# Altium footprint library MiscPower.PcbLib: 174 footprints (part 8 of 12)
Each footprint in its own frame and in the unit in brackets; x right, y up, seen from the top. Pads: shape width x height; smd on the part's side, far side on the other; paste and mask are expansions set on the pad; w line width, h text height; cw(c..) or ccw(c..) is an arc to the next point about the centre after c.
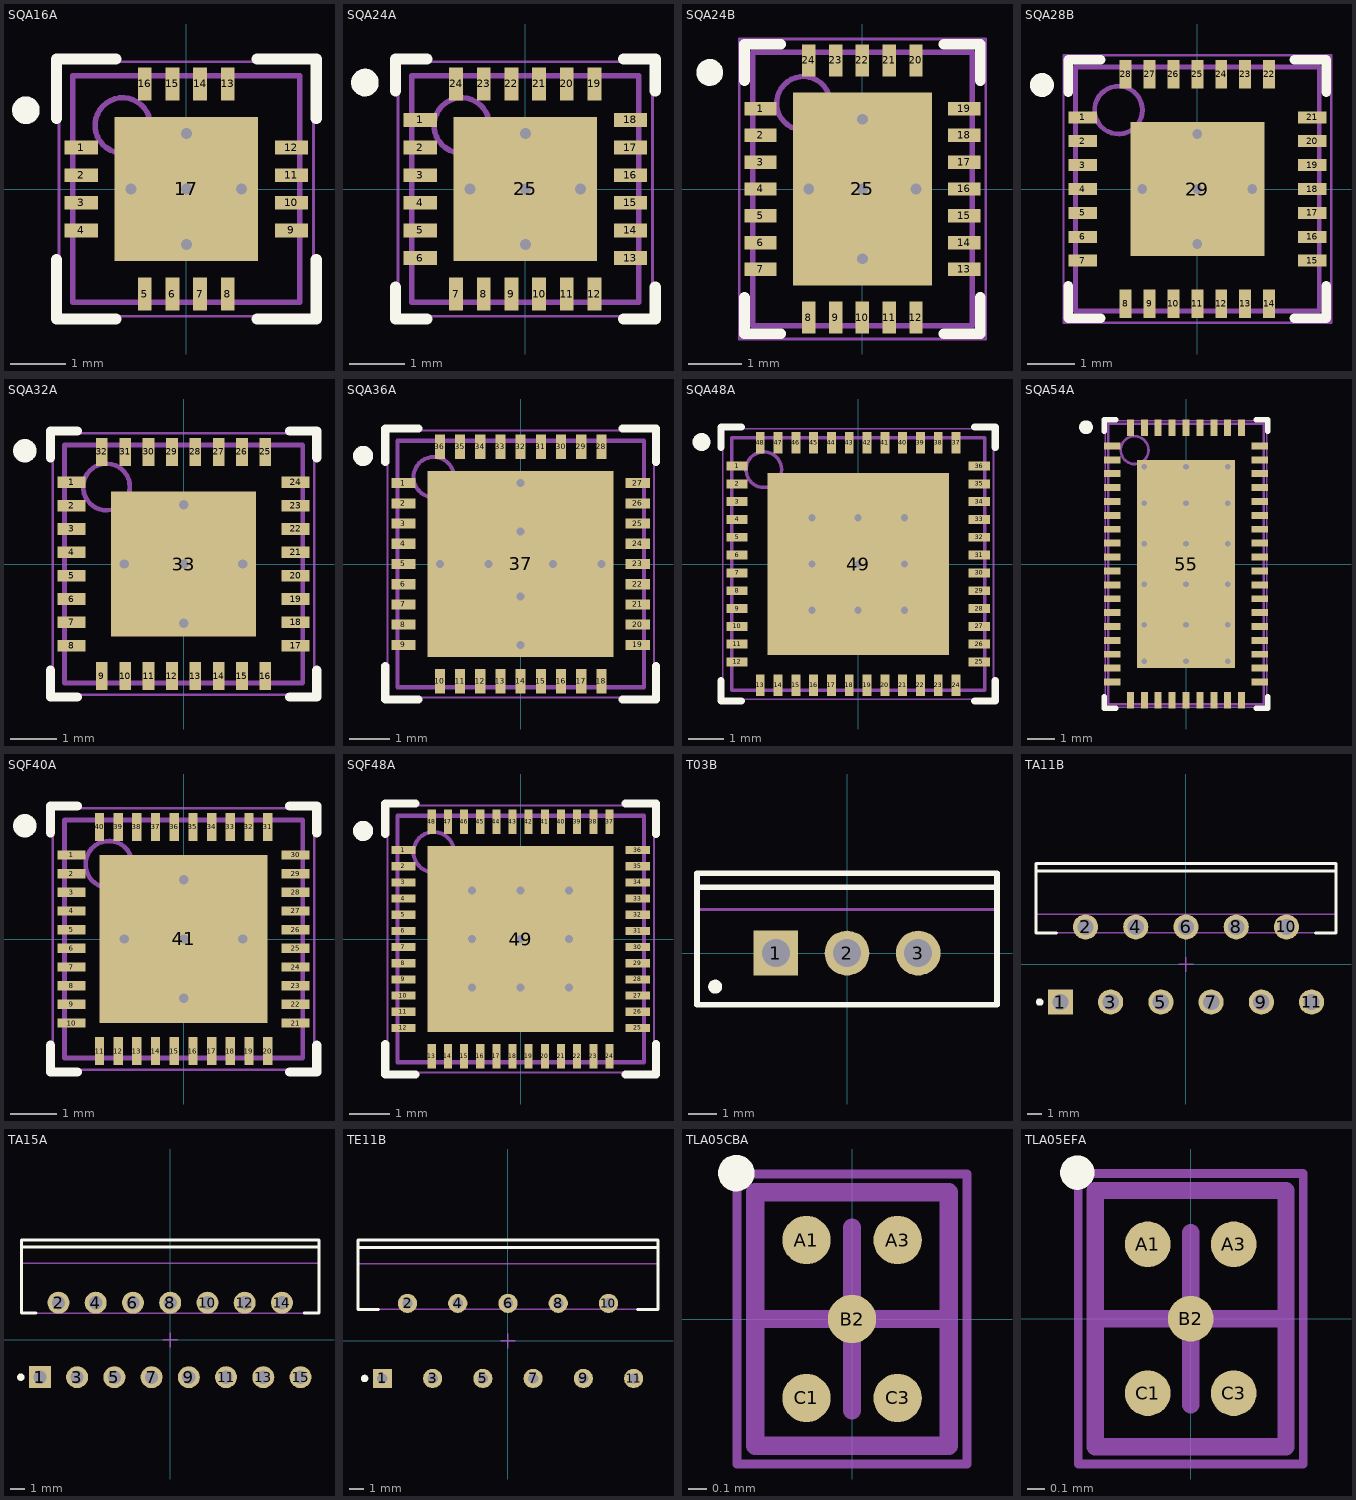
[diagram p7: the footprints below, top view; thin cyan lines are the x and y axes]

## SQA16A [mm] "QFN, 16-Leads, Body 4x4mm, Pitch 0.5mm, NSC Recommended"
height 0.8
pads (17):
  rect 0.6x0.25 smd paste-0.125 mask+0.051: 1(-1.9,0.75) 2(-1.9,0.25) 3(-1.9,-0.25) 4(-1.9,-0.75) 9(1.9,-0.75) 10(1.9,-0.25) 11(1.9,0.25) 12(1.9,0.75)
  rect 0.25x0.6 smd paste-0.125 mask+0.051: 5(-0.75,-1.9) 6(-0.25,-1.9) 7(0.25,-1.9) 8(0.75,-1.9) 13(0.75,1.9) 14(0.25,1.9) 15(-0.25,1.9) 16(-0.75,1.9)
  rect 2.6x2.6 smd paste-1.3 mask+0.051: 17(0,0)
via 0,0 diameter 0.5 hole 0.2
via 1,0 diameter 0.5 hole 0.2
via -1,0 diameter 0.5 hole 0.2
via 0,1 diameter 0.5 hole 0.2
via 0,-1 diameter 0.5 hole 0.2
Top Overlay:
  circle w0.25: c-2.9,1.425 r0.125
  lines w0.2: -2.35,-1.275 -2.35,-2.35 -1.275,-2.35 ; -2.35,1.275 -2.35,2.35 -1.275,2.35 ; 1.275,-2.35 2.35,-2.35 2.35,-1.275 ; 1.275,2.35 2.35,2.35 2.35,1.275
Top Paste:
  region: -0.625,-2.4 -0.625,-1.7 -0.875,-1.7 -0.875,-2.4
  region: -0.125,-2.4 -0.125,-1.7 -0.375,-1.7 -0.375,-2.4
  region: 0.375,-2.4 0.375,-1.7 0.125,-1.7 0.125,-2.4
  region: 0.875,-2.4 0.875,-1.7 0.625,-1.7 0.625,-2.4
  region: 0.625,2.4 0.625,1.7 0.875,1.7 0.875,2.4
  region: 0.125,2.4 0.125,1.7 0.375,1.7 0.375,2.4
  region: -0.375,2.4 -0.375,1.7 -0.125,1.7 -0.125,2.4
  region: -0.875,2.4 -0.875,1.7 -0.625,1.7 -0.625,2.4
  region: 2.4,-0.625 1.7,-0.625 1.7,-0.875 2.4,-0.875
  region: 2.4,-0.125 1.7,-0.125 1.7,-0.375 2.4,-0.375
  region: 2.4,0.375 1.7,0.375 1.7,0.125 2.4,0.125
  region: 2.4,0.875 1.7,0.875 1.7,0.625 2.4,0.625
  rectangle: -2.4,-0.875 -1.7,-0.625
  rectangle: -2.4,-0.375 -1.7,-0.125
  rectangle: -2.4,0.125 -1.7,0.375
  rectangle: -2.4,0.625 -1.7,0.875
  rectangle: 0.1,0.1 1.2,1.2
  region: -0.1,1.2 -1.2,1.2 -1.2,0.1 -0.1,0.1
  region: -0.1,-0.1 -1.2,-0.1 -1.2,-1.2 -0.1,-1.2
  rectangle: 0.1,-1.2 1.2,-0.1
Mechanical 13:
  circle w0.1: c-1.15,1.15 r0.5
  lines w0.1: -2.05,-2.05 2.05,-2.05 2.05,2.05 -2.05,2.05 -2.05,-2.05
Mechanical 15:
  lines w0.05: -2.3,-2.3 2.3,-2.3 2.3,2.3 -2.3,2.3 -2.3,-2.3
  lines w0.1: -0.5,0 0.5,0 ; 0,-0.5 0,0.5
3D body: height 0.8, standoff 0, extent -2.05,-2.05 2.05,2.05

## SQA24A [mm] "QFN, 24-Leads, Body 4x4mm, Pitch 0.5mm, NSC Recommended"
height 0.8
pads (25):
  rect 0.6x0.25 smd paste-0.125 mask+0.051: 1(-1.9,1.25) 2(-1.9,0.75) 3(-1.9,0.25) 4(-1.9,-0.25) 5(-1.9,-0.75) 6(-1.9,-1.25) 13(1.9,-1.25) 14(1.9,-0.75) 15(1.9,-0.25) 16(1.9,0.25) 17(1.9,0.75) 18(1.9,1.25)
  rect 0.25x0.6 smd paste-0.125 mask+0.051: 7(-1.25,-1.9) 8(-0.75,-1.9) 9(-0.25,-1.9) 10(0.25,-1.9) 11(0.75,-1.9) 12(1.25,-1.9) 19(1.25,1.9) 20(0.75,1.9) 21(0.25,1.9) 22(-0.25,1.9) 23(-0.75,1.9) 24(-1.25,1.9)
  rect 2.6x2.6 smd paste-1.3 mask+0.051: 25(0,0)
via 0,0 diameter 0.5 hole 0.2
via 1,0 diameter 0.5 hole 0.2
via -1,0 diameter 0.5 hole 0.2
via 0,1 diameter 0.5 hole 0.2
via 0,-1 diameter 0.5 hole 0.2
Top Overlay:
  circle w0.25: c-2.9,1.925 r0.125
  lines w0.2: -2.35,-1.775 -2.35,-2.35 -1.775,-2.35 ; -2.35,1.775 -2.35,2.35 -1.775,2.35 ; 1.775,-2.35 2.35,-2.35 2.35,-1.775 ; 1.775,2.35 2.35,2.35 2.35,1.775
Top Paste:
  region: 1.125,2.4 1.125,1.7 1.375,1.7 1.375,2.4
  region: 0.625,2.4 0.625,1.7 0.875,1.7 0.875,2.4
  region: 0.125,2.4 0.125,1.7 0.375,1.7 0.375,2.4
  region: -0.375,2.4 -0.375,1.7 -0.125,1.7 -0.125,2.4
  region: -0.875,2.4 -0.875,1.7 -0.625,1.7 -0.625,2.4
  region: -1.375,2.4 -1.375,1.7 -1.125,1.7 -1.125,2.4
  region: 2.4,-1.125 1.7,-1.125 1.7,-1.375 2.4,-1.375
  region: 2.4,-0.625 1.7,-0.625 1.7,-0.875 2.4,-0.875
  region: 2.4,-0.125 1.7,-0.125 1.7,-0.375 2.4,-0.375
  region: 2.4,0.375 1.7,0.375 1.7,0.125 2.4,0.125
  region: 2.4,0.875 1.7,0.875 1.7,0.625 2.4,0.625
  region: 2.4,1.375 1.7,1.375 1.7,1.125 2.4,1.125
  region: -1.125,-2.4 -1.125,-1.7 -1.375,-1.7 -1.375,-2.4
  region: -0.625,-2.4 -0.625,-1.7 -0.875,-1.7 -0.875,-2.4
  region: -0.125,-2.4 -0.125,-1.7 -0.375,-1.7 -0.375,-2.4
  region: 0.375,-2.4 0.375,-1.7 0.125,-1.7 0.125,-2.4
  region: 0.875,-2.4 0.875,-1.7 0.625,-1.7 0.625,-2.4
  region: 1.375,-2.4 1.375,-1.7 1.125,-1.7 1.125,-2.4
  rectangle: -2.4,-1.375 -1.7,-1.125
  rectangle: -2.4,-0.875 -1.7,-0.625
  rectangle: -2.4,-0.375 -1.7,-0.125
  rectangle: -2.4,0.125 -1.7,0.375
  rectangle: -2.4,0.625 -1.7,0.875
  rectangle: -2.4,1.125 -1.7,1.375
  rectangle: 0.1,-1.2 1.2,-0.1
  region: -0.1,-0.1 -1.2,-0.1 -1.2,-1.2 -0.1,-1.2
  region: -0.1,1.2 -1.2,1.2 -1.2,0.1 -0.1,0.1
  rectangle: 0.1,0.1 1.2,1.2
Mechanical 13:
  circle w0.1: c-1.15,1.15 r0.5
  lines w0.1: -2.05,-2.05 -2.05,2.05 2.05,2.05 2.05,-2.05 -2.05,-2.05
Mechanical 15:
  lines w0.05: -2.3,-2.3 -2.3,2.3 2.3,2.3 2.3,-2.3 -2.3,-2.3
  lines w0.1: -0.5,0 0.5,0 ; 0,-0.5 0,0.5
3D body: height 0.8, standoff 0, extent -2.05,-2.05 2.05,2.05

## SQA24B [mm] "QFN, 24-Leads, Body 5x4mm, Pitch 0.5mm, NSC Recommended"
height 0.8
pads (25):
  rect 0.6x0.25 smd paste-0.3 mask+0.051: 1(-1.9,1.5) 2(-1.9,1) 3(-1.9,0.5) 4(-1.9,0) 5(-1.9,-0.5) 6(-1.9,-1) 7(-1.9,-1.5) 13(1.9,-1.5) 14(1.9,-1) 15(1.9,-0.5) 16(1.9,0) 17(1.9,0.5) 18(1.9,1) 19(1.9,1.5)
  rect 0.25x0.6 smd paste-0.3 mask+0.051: 8(-1,-2.4) 9(-0.5,-2.4) 10(0,-2.4) 11(0.5,-2.4) 12(1,-2.4) 20(1,2.4) 21(0.5,2.4) 22(0,2.4) 23(-0.5,2.4) 24(-1,2.4)
  rect 2.6x3.6 smd paste-1.3 mask+0.051: 25(0,0)
via 0,0 diameter 0.5 hole 0.2
via -1,0 diameter 0.5 hole 0.2
via 0,-1.3 diameter 0.5 hole 0.2
via 0,1.3 diameter 0.5 hole 0.2
via 1,0 diameter 0.5 hole 0.2
Top Overlay:
  circle w0.25: c-2.85,2.175 r0.125
  lines w0.2: -2.2,-2.025 -2.2,-2.7 -1.525,-2.7 ; -2.2,2.025 -2.2,2.7 -1.525,2.7 ; 1.525,-2.7 2.2,-2.7 2.2,-2.025 ; 1.525,2.7 2.2,2.7 2.2,2.025
Top Paste:
  region: 1.125,-2.9 1.125,-2.2 0.875,-2.2 0.875,-2.9
  region: 0.625,-2.9 0.625,-2.2 0.375,-2.2 0.375,-2.9
  region: 0.125,-2.9 0.125,-2.2 -0.125,-2.2 -0.125,-2.9
  region: -0.375,-2.9 -0.375,-2.2 -0.625,-2.2 -0.625,-2.9
  region: -0.875,-2.9 -0.875,-2.2 -1.125,-2.2 -1.125,-2.9
  rectangle: -2.4,-1.625 -1.7,-1.375
  rectangle: -2.4,-1.125 -1.7,-0.875
  rectangle: -2.4,-0.625 -1.7,-0.375
  rectangle: -2.4,-0.125 -1.7,0.125
  rectangle: -2.4,0.375 -1.7,0.625
  rectangle: -2.4,0.875 -1.7,1.125
  rectangle: -2.4,1.375 -1.7,1.625
  region: -1.125,2.9 -1.125,2.2 -0.875,2.2 -0.875,2.9
  region: -0.625,2.9 -0.625,2.2 -0.375,2.2 -0.375,2.9
  region: -0.125,2.9 -0.125,2.2 0.125,2.2 0.125,2.9
  region: 0.375,2.9 0.375,2.2 0.625,2.2 0.625,2.9
  region: 0.875,2.9 0.875,2.2 1.125,2.2 1.125,2.9
  region: 2.4,-1.375 1.7,-1.375 1.7,-1.625 2.4,-1.625
  region: 2.4,-0.875 1.7,-0.875 1.7,-1.125 2.4,-1.125
  region: 2.4,-0.375 1.7,-0.375 1.7,-0.625 2.4,-0.625
  region: 2.4,0.125 1.7,0.125 1.7,-0.125 2.4,-0.125
  region: 2.4,0.625 1.7,0.625 1.7,0.375 2.4,0.375
  region: 2.4,1.125 1.7,1.125 1.7,0.875 2.4,0.875
  region: 2.4,1.625 1.7,1.625 1.7,1.375 2.4,1.375
  rectangle: 0.1,0.1 1.2,1.7
  region: -0.1,1.7 -1.2,1.7 -1.2,0.1 -0.1,0.1
  region: -0.1,-0.1 -1.2,-0.1 -1.2,-1.7 -0.1,-1.7
  rectangle: 0.1,-1.7 1.2,-0.1
Mechanical 13:
  circle w0.1: c-1.1,1.6 r0.5
  lines w0.1: -2.05,-2.55 2.05,-2.55 2.05,2.55 -2.05,2.55 -2.05,-2.55
Mechanical 15:
  lines w0.05: -2.3,-2.8 2.3,-2.8 2.3,2.8 -2.3,2.8 -2.3,-2.8
  lines w0.1: -0.5,0 0.5,0 ; 0,-0.5 0,0.5
3D body: height 0.8, standoff 0, extent -2.05,-2.55 2.05,2.55

## SQA28B [mm] "QFN, 29-Leads, Body 5x5mm, Pitch 0.5mm, Thermal Pad 2.8x2.8mm, NSC Recommended"
height 0.8
pads (29):
  rect 0.6x0.25 smd paste-0.125 mask+0.051: 1(-2.4,1.5) 2(-2.4,1) 3(-2.4,0.5) 4(-2.4,0) 5(-2.4,-0.5) 6(-2.4,-1) 7(-2.4,-1.5) 15(2.4,-1.5) 16(2.4,-1) 17(2.4,-0.5) 18(2.4,0) 19(2.4,0.5) 20(2.4,1) 21(2.4,1.5)
  rect 0.25x0.6 smd paste-0.125 mask+0.051: 8(-1.5,-2.4) 9(-1,-2.4) 10(-0.5,-2.4) 11(0,-2.4) 12(0.5,-2.4) 13(1,-2.4) 14(1.5,-2.4) 22(1.5,2.4) 23(1,2.4) 24(0.5,2.4) 25(0,2.4) 26(-0.5,2.4) 27(-1,2.4) 28(-1.5,2.4)
  rect 2.8x2.8 smd paste-1.8 mask+0.051: 29(0,0)
via -1.15,0 diameter 0.5 hole 0.2
via 0,-1.15 diameter 0.5 hole 0.2
via 0,1.15 diameter 0.5 hole 0.2
via 1.15,0 diameter 0.5 hole 0.2
via 0,0 diameter 0.5 hole 0.2
Top Overlay:
  circle w0.25: c-3.25,2.175 r0.125
  lines w0.2: -2.7,-2.025 -2.7,-2.7 -2.025,-2.7 ; -2.7,2.025 -2.7,2.7 -2.025,2.7 ; 2.025,-2.7 2.7,-2.7 2.7,-2.025 ; 2.025,2.7 2.7,2.7 2.7,2.025
Top Paste:
  region: 1.2,0.1 1.2,1.2 0.1,1.2 0.1,0.1
  rectangle: 0.1,-1.2 1.2,-0.1
  region: -1.2,-0.1 -1.2,-1.2 -0.1,-1.2 -0.1,-0.1
  region: -0.1,1.2 -1.2,1.2 -1.2,0.1 -0.1,0.1
  region: -1.375,-2.9 -1.375,-2.2 -1.625,-2.2 -1.625,-2.9
  region: -0.875,-2.9 -0.875,-2.2 -1.125,-2.2 -1.125,-2.9
  region: -0.375,-2.9 -0.375,-2.2 -0.625,-2.2 -0.625,-2.9
  region: 0.125,-2.9 0.125,-2.2 -0.125,-2.2 -0.125,-2.9
  region: 0.625,-2.9 0.625,-2.2 0.375,-2.2 0.375,-2.9
  region: 1.125,-2.9 1.125,-2.2 0.875,-2.2 0.875,-2.9
  region: 1.625,-2.9 1.625,-2.2 1.375,-2.2 1.375,-2.9
  region: -1.625,2.9 -1.625,2.2 -1.375,2.2 -1.375,2.9
  region: -1.125,2.9 -1.125,2.2 -0.875,2.2 -0.875,2.9
  region: -0.625,2.9 -0.625,2.2 -0.375,2.2 -0.375,2.9
  region: -0.125,2.9 -0.125,2.2 0.125,2.2 0.125,2.9
  region: 0.375,2.9 0.375,2.2 0.625,2.2 0.625,2.9
  region: 0.875,2.9 0.875,2.2 1.125,2.2 1.125,2.9
  region: 1.375,2.9 1.375,2.2 1.625,2.2 1.625,2.9
  region: 2.9,1.625 2.2,1.625 2.2,1.375 2.9,1.375
  region: 2.9,1.125 2.2,1.125 2.2,0.875 2.9,0.875
  region: 2.9,0.625 2.2,0.625 2.2,0.375 2.9,0.375
  region: 2.9,0.125 2.2,0.125 2.2,-0.125 2.9,-0.125
  region: 2.9,-0.375 2.2,-0.375 2.2,-0.625 2.9,-0.625
  region: 2.9,-0.875 2.2,-0.875 2.2,-1.125 2.9,-1.125
  region: 2.9,-1.375 2.2,-1.375 2.2,-1.625 2.9,-1.625
  rectangle: -2.9,-1.625 -2.2,-1.375
  rectangle: -2.9,-1.125 -2.2,-0.875
  rectangle: -2.9,-0.625 -2.2,-0.375
  rectangle: -2.9,-0.125 -2.2,0.125
  rectangle: -2.9,0.375 -2.2,0.625
  rectangle: -2.9,0.875 -2.2,1.125
  rectangle: -2.9,1.375 -2.2,1.625
Mechanical 13:
  circle w0.1: c-1.65,1.65 r0.5
  lines w0.1: -2.55,-2.55 -2.55,2.55 2.55,2.55 2.55,-2.55 -2.55,-2.55
Mechanical 15:
  lines w0.05: -2.8,-2.8 -2.8,2.8 2.8,2.8 2.8,-2.8 -2.8,-2.8
  lines w0.1: -0.5,0 0.5,0 ; 0,-0.5 0,0.5
3D body: height 0.8, standoff 0, extent -2.55,-2.55 2.55,2.55

## SQA32A [mm] "QFN, 32-Leads, Body 5x5mm, Pitch 0.5mm, NSC Recommended"
height 0.8
pads (33):
  rect 0.6x0.25 smd paste-0.125 mask+0.051: 1(-2.4,1.75) 2(-2.4,1.25) 3(-2.4,0.75) 4(-2.4,0.25) 5(-2.4,-0.25) 6(-2.4,-0.75) 7(-2.4,-1.25) 8(-2.4,-1.75) 17(2.4,-1.75) 18(2.4,-1.25) 19(2.4,-0.75) 20(2.4,-0.25) 21(2.4,0.25) 22(2.4,0.75) 23(2.4,1.25) 24(2.4,1.75)
  rect 0.25x0.6 smd paste-0.125 mask+0.051: 9(-1.75,-2.4) 10(-1.25,-2.4) 11(-0.75,-2.4) 12(-0.25,-2.4) 13(0.25,-2.4) 14(0.75,-2.4) 15(1.25,-2.4) 16(1.75,-2.4) 25(1.75,2.4) 26(1.25,2.4) 27(0.75,2.4) 28(0.25,2.4) 29(-0.25,2.4) 30(-0.75,2.4) 31(-1.25,2.4) 32(-1.75,2.4)
  rect 3.1x3.1 smd paste-1.55 mask+0.051: 33(0,0)
via 0,1.27 diameter 0.5 hole 0.2
via -1.27,0 diameter 0.5 hole 0.2
via 0,0 diameter 0.5 hole 0.2
via 1.27,0 diameter 0.5 hole 0.2
via 0,-1.27 diameter 0.5 hole 0.2
Top Overlay:
  circle w0.25: c-3.4,2.425 r0.125
  lines w0.2: -2.85,-2.275 -2.85,-2.85 -2.275,-2.85 ; -2.85,2.275 -2.85,2.85 -2.275,2.85 ; 2.275,-2.85 2.85,-2.85 2.85,-2.275 ; 2.275,2.85 2.85,2.85 2.85,2.275
Top Paste:
  region: 1.625,2.9 1.625,2.2 1.875,2.2 1.875,2.9
  region: 1.125,2.9 1.125,2.2 1.375,2.2 1.375,2.9
  region: 0.625,2.9 0.625,2.2 0.875,2.2 0.875,2.9
  region: 0.125,2.9 0.125,2.2 0.375,2.2 0.375,2.9
  region: -0.375,2.9 -0.375,2.2 -0.125,2.2 -0.125,2.9
  region: -0.875,2.9 -0.875,2.2 -0.625,2.2 -0.625,2.9
  region: -1.375,2.9 -1.375,2.2 -1.125,2.2 -1.125,2.9
  region: -1.875,2.9 -1.875,2.2 -1.625,2.2 -1.625,2.9
  region: 2.9,-1.625 2.2,-1.625 2.2,-1.875 2.9,-1.875
  region: 2.9,-1.125 2.2,-1.125 2.2,-1.375 2.9,-1.375
  region: 2.9,-0.625 2.2,-0.625 2.2,-0.875 2.9,-0.875
  region: 2.9,-0.125 2.2,-0.125 2.2,-0.375 2.9,-0.375
  region: 2.9,0.375 2.2,0.375 2.2,0.125 2.9,0.125
  region: 2.9,0.875 2.2,0.875 2.2,0.625 2.9,0.625
  region: 2.9,1.375 2.2,1.375 2.2,1.125 2.9,1.125
  region: 2.9,1.875 2.2,1.875 2.2,1.625 2.9,1.625
  region: -1.625,-2.9 -1.625,-2.2 -1.875,-2.2 -1.875,-2.9
  region: -1.125,-2.9 -1.125,-2.2 -1.375,-2.2 -1.375,-2.9
  region: -0.625,-2.9 -0.625,-2.2 -0.875,-2.2 -0.875,-2.9
  region: -0.125,-2.9 -0.125,-2.2 -0.375,-2.2 -0.375,-2.9
  region: 0.375,-2.9 0.375,-2.2 0.125,-2.2 0.125,-2.9
  region: 0.875,-2.9 0.875,-2.2 0.625,-2.2 0.625,-2.9
  region: 1.375,-2.9 1.375,-2.2 1.125,-2.2 1.125,-2.9
  region: 1.875,-2.9 1.875,-2.2 1.625,-2.2 1.625,-2.9
  rectangle: -2.9,-1.875 -2.2,-1.625
  rectangle: -2.9,-1.375 -2.2,-1.125
  rectangle: -2.9,-0.875 -2.2,-0.625
  rectangle: -2.9,-0.375 -2.2,-0.125
  rectangle: -2.9,0.125 -2.2,0.375
  rectangle: -2.9,0.625 -2.2,0.875
  rectangle: -2.9,1.125 -2.2,1.375
  rectangle: -2.9,1.625 -2.2,1.875
  rectangle: 0.1,0.1 1.4,1.4
  region: -0.1,1.4 -1.4,1.4 -1.4,0.1 -0.1,0.1
  region: -0.1,-0.1 -1.4,-0.1 -1.4,-1.4 -0.1,-1.4
  rectangle: 0.1,-1.4 1.4,-0.1
Mechanical 13:
  circle w0.1: c-1.65,1.65 r0.5
  lines w0.1: -2.55,-2.55 -2.55,2.55 2.55,2.55 2.55,-2.55 -2.55,-2.55
Mechanical 15:
  lines w0.05: -2.8,-2.8 -2.8,2.8 2.8,2.8 2.8,-2.8 -2.8,-2.8
  lines w0.1: -0.5,0 0.5,0 ; 0,-0.5 0,0.5
3D body: height 0.8, standoff 0, extent -2.55,-2.55 2.55,2.55

## SQA36A [mm] "QFN, 36-Leads, Body 6x6mm, Pitch 0.5mm, NSC Recommended"
height 0.8
pads (37):
  rect 0.6x0.25 smd paste-0.125 mask+0.051: 1(-2.9,2) 2(-2.9,1.5) 3(-2.9,1) 4(-2.9,0.5) 5(-2.9,0) 6(-2.9,-0.5) 7(-2.9,-1) 8(-2.9,-1.5) 9(-2.9,-2) 19(2.9,-2) 20(2.9,-1.5) 21(2.9,-1) 22(2.9,-0.5) 23(2.9,0) 24(2.9,0.5) 25(2.9,1) 26(2.9,1.5) 27(2.9,2)
  rect 0.25x0.6 smd paste-0.125 mask+0.051: 10(-2,-2.9) 11(-1.5,-2.9) 12(-1,-2.9) 13(-0.5,-2.9) 14(0,-2.9) 15(0.5,-2.9) 16(1,-2.9) 17(1.5,-2.9) 18(2,-2.9) 28(2,2.9) 29(1.5,2.9) 30(1,2.9) 31(0.5,2.9) 32(0,2.9) 33(-0.5,2.9) 34(-1,2.9) 35(-1.5,2.9) 36(-2,2.9)
  rect 4.6x4.6 smd paste-2.3 mask+0.051: 37(0,0)
via -2,0 diameter 0.5 hole 0.2
via 2,0 diameter 0.5 hole 0.2
via 0,-2 diameter 0.5 hole 0.2
via 0,2 diameter 0.5 hole 0.2
via 0,-0.8 diameter 0.5 hole 0.2
via 0,0.8 diameter 0.5 hole 0.2
via -0.8,0 diameter 0.5 hole 0.2
via 0.8,0 diameter 0.5 hole 0.2
Top Overlay:
  circle w0.25: c-3.9,2.675 r0.125
  lines w0.2: -3.35,-2.525 -3.35,-3.35 -2.525,-3.35 ; -3.35,2.525 -3.35,3.35 -2.525,3.35 ; 2.525,-3.35 3.35,-3.35 3.35,-2.525 ; 2.525,3.35 3.35,3.35 3.35,2.525
Top Paste:
  rectangle: 0.15,-2.2 2.2,-0.15
  region: -0.15,-0.15 -2.2,-0.15 -2.2,-2.2 -0.15,-2.2
  region: -0.15,2.2 -2.2,2.2 -2.2,0.15 -0.15,0.15
  rectangle: 0.15,0.15 2.2,2.2
  region: 1.875,3.4 1.875,2.7 2.125,2.7 2.125,3.4
  region: 1.375,3.4 1.375,2.7 1.625,2.7 1.625,3.4
  region: 0.875,3.4 0.875,2.7 1.125,2.7 1.125,3.4
  region: 0.375,3.4 0.375,2.7 0.625,2.7 0.625,3.4
  region: -0.125,3.4 -0.125,2.7 0.125,2.7 0.125,3.4
  region: -0.625,3.4 -0.625,2.7 -0.375,2.7 -0.375,3.4
  region: -1.125,3.4 -1.125,2.7 -0.875,2.7 -0.875,3.4
  region: -1.625,3.4 -1.625,2.7 -1.375,2.7 -1.375,3.4
  region: -2.125,3.4 -2.125,2.7 -1.875,2.7 -1.875,3.4
  region: 3.4,-1.875 2.7,-1.875 2.7,-2.125 3.4,-2.125
  region: 3.4,-1.375 2.7,-1.375 2.7,-1.625 3.4,-1.625
  region: 3.4,-0.875 2.7,-0.875 2.7,-1.125 3.4,-1.125
  region: 3.4,-0.375 2.7,-0.375 2.7,-0.625 3.4,-0.625
  region: 3.4,0.125 2.7,0.125 2.7,-0.125 3.4,-0.125
  region: 3.4,0.625 2.7,0.625 2.7,0.375 3.4,0.375
  region: 3.4,1.125 2.7,1.125 2.7,0.875 3.4,0.875
  region: 3.4,1.625 2.7,1.625 2.7,1.375 3.4,1.375
  region: 3.4,2.125 2.7,2.125 2.7,1.875 3.4,1.875
  region: -1.875,-3.4 -1.875,-2.7 -2.125,-2.7 -2.125,-3.4
  region: -1.375,-3.4 -1.375,-2.7 -1.625,-2.7 -1.625,-3.4
  region: -0.875,-3.4 -0.875,-2.7 -1.125,-2.7 -1.125,-3.4
  region: -0.375,-3.4 -0.375,-2.7 -0.625,-2.7 -0.625,-3.4
  region: 0.125,-3.4 0.125,-2.7 -0.125,-2.7 -0.125,-3.4
  region: 0.625,-3.4 0.625,-2.7 0.375,-2.7 0.375,-3.4
  region: 1.125,-3.4 1.125,-2.7 0.875,-2.7 0.875,-3.4
  region: 1.625,-3.4 1.625,-2.7 1.375,-2.7 1.375,-3.4
  region: 2.125,-3.4 2.125,-2.7 1.875,-2.7 1.875,-3.4
  rectangle: -3.4,-2.125 -2.7,-1.875
  rectangle: -3.4,-1.625 -2.7,-1.375
  rectangle: -3.4,-1.125 -2.7,-0.875
  rectangle: -3.4,-0.625 -2.7,-0.375
  rectangle: -3.4,-0.125 -2.7,0.125
  rectangle: -3.4,0.375 -2.7,0.625
  rectangle: -3.4,0.875 -2.7,1.125
  rectangle: -3.4,1.375 -2.7,1.625
  rectangle: -3.4,1.875 -2.7,2.125
Mechanical 13:
  circle w0.1: c-2.15,2.15 r0.5
  lines w0.1: -3.05,-3.05 -3.05,3.05 3.05,3.05 3.05,-3.05 -3.05,-3.05
Mechanical 15:
  lines w0.05: -3.3,-3.3 -3.3,3.3 3.3,3.3 3.3,-3.3 -3.3,-3.3
  lines w0.1: -0.5,0 0.5,0 ; 0,-0.5 0,0.5
3D body: height 0.8, standoff 0, extent -3.05,-3.05 3.05,3.05

## SQA48A [mm] "QFN, 48-Leads, Body 7x7mm, Pitch 0.5mm, NSC Recommended"
height 0.8
pads (49):
  rect 0.6x0.25 smd paste-0.125 mask+0.051: 1(-3.4,2.75) 2(-3.4,2.25) 3(-3.4,1.75) 4(-3.4,1.25) 5(-3.4,0.75) 6(-3.4,0.25) 7(-3.4,-0.25) 8(-3.4,-0.75) 9(-3.4,-1.25) 10(-3.4,-1.75) 11(-3.4,-2.25) 12(-3.4,-2.75) 25(3.4,-2.75) 26(3.4,-2.25) 27(3.4,-1.75) 28(3.4,-1.25) 29(3.4,-0.75) 30(3.4,-0.25) 31(3.4,0.25) 32(3.4,0.75) 33(3.4,1.25) 34(3.4,1.75) 35(3.4,2.25) 36(3.4,2.75)
  rect 0.25x0.6 smd paste-0.125 mask+0.051: 13(-2.75,-3.4) 14(-2.25,-3.4) 15(-1.75,-3.4) 16(-1.25,-3.4) 17(-0.75,-3.4) 18(-0.25,-3.4) 19(0.25,-3.4) 20(0.75,-3.4) 21(1.25,-3.4) 22(1.75,-3.4) 23(2.25,-3.4) 24(2.75,-3.4) 37(2.75,3.4) 38(2.25,3.4) 39(1.75,3.4) 40(1.25,3.4) 41(0.75,3.4) 42(0.25,3.4) 43(-0.25,3.4) 44(-0.75,3.4) 45(-1.25,3.4) 46(-1.75,3.4) 47(-2.25,3.4) 48(-2.75,3.4)
  rect 5.1x5.1 smd paste-2.55 mask+0.051: 49(0,0)
via 0,-1.3 diameter 0.5 hole 0.2
via 1.3,-1.3 diameter 0.5 hole 0.2
via -1.3,-1.3 diameter 0.5 hole 0.2
via 0,1.3 diameter 0.5 hole 0.2
via 1.3,1.3 diameter 0.5 hole 0.2
via -1.3,1.3 diameter 0.5 hole 0.2
via -1.3,0 diameter 0.5 hole 0.2
via 1.3,0 diameter 0.5 hole 0.2
via 0,0 diameter 0.5 hole 0.2
Top Overlay:
  circle w0.25: c-4.4,3.425 r0.125
  lines w0.2: -3.85,-3.275 -3.85,-3.85 -3.275,-3.85 ; -3.85,3.275 -3.85,3.85 -3.275,3.85 ; 3.275,-3.85 3.85,-3.85 3.85,-3.275 ; 3.275,3.85 3.85,3.85 3.85,3.275
Top Paste:
  rectangle: -3.9,2.625 -3.2,2.875
  rectangle: -3.9,2.125 -3.2,2.375
  rectangle: -3.9,1.625 -3.2,1.875
  rectangle: -3.9,1.125 -3.2,1.375
  rectangle: -3.9,0.625 -3.2,0.875
  rectangle: -3.9,0.125 -3.2,0.375
  rectangle: -3.9,-0.375 -3.2,-0.125
  rectangle: -3.9,-0.875 -3.2,-0.625
  rectangle: -3.9,-1.375 -3.2,-1.125
  rectangle: -3.9,-1.875 -3.2,-1.625
  rectangle: -3.9,-2.375 -3.2,-2.125
  rectangle: -3.9,-2.875 -3.2,-2.625
  region: 2.875,-3.9 2.875,-3.2 2.625,-3.2 2.625,-3.9
  region: 2.375,-3.9 2.375,-3.2 2.125,-3.2 2.125,-3.9
  region: 1.875,-3.9 1.875,-3.2 1.625,-3.2 1.625,-3.9
  region: 1.375,-3.9 1.375,-3.2 1.125,-3.2 1.125,-3.9
  region: 0.875,-3.9 0.875,-3.2 0.625,-3.2 0.625,-3.9
  region: 0.375,-3.9 0.375,-3.2 0.125,-3.2 0.125,-3.9
  region: -0.125,-3.9 -0.125,-3.2 -0.375,-3.2 -0.375,-3.9
  region: -0.625,-3.9 -0.625,-3.2 -0.875,-3.2 -0.875,-3.9
  region: -1.125,-3.9 -1.125,-3.2 -1.375,-3.2 -1.375,-3.9
  region: -1.625,-3.9 -1.625,-3.2 -1.875,-3.2 -1.875,-3.9
  region: -2.125,-3.9 -2.125,-3.2 -2.375,-3.2 -2.375,-3.9
  region: -2.625,-3.9 -2.625,-3.2 -2.875,-3.2 -2.875,-3.9
  region: 3.9,2.875 3.2,2.875 3.2,2.625 3.9,2.625
  region: 3.9,2.375 3.2,2.375 3.2,2.125 3.9,2.125
  region: 3.9,1.875 3.2,1.875 3.2,1.625 3.9,1.625
  region: 3.9,1.375 3.2,1.375 3.2,1.125 3.9,1.125
  region: 3.9,0.875 3.2,0.875 3.2,0.625 3.9,0.625
  region: 3.9,0.375 3.2,0.375 3.2,0.125 3.9,0.125
  region: 3.9,-0.125 3.2,-0.125 3.2,-0.375 3.9,-0.375
  region: 3.9,-0.625 3.2,-0.625 3.2,-0.875 3.9,-0.875
  region: 3.9,-1.125 3.2,-1.125 3.2,-1.375 3.9,-1.375
  region: 3.9,-1.625 3.2,-1.625 3.2,-1.875 3.9,-1.875
  region: 3.9,-2.125 3.2,-2.125 3.2,-2.375 3.9,-2.375
  region: 3.9,-2.625 3.2,-2.625 3.2,-2.875 3.9,-2.875
  region: -2.875,3.9 -2.875,3.2 -2.625,3.2 -2.625,3.9
  region: -2.375,3.9 -2.375,3.2 -2.125,3.2 -2.125,3.9
  region: -1.875,3.9 -1.875,3.2 -1.625,3.2 -1.625,3.9
  region: -1.375,3.9 -1.375,3.2 -1.125,3.2 -1.125,3.9
  region: -0.875,3.9 -0.875,3.2 -0.625,3.2 -0.625,3.9
  region: -0.375,3.9 -0.375,3.2 -0.125,3.2 -0.125,3.9
  region: 0.125,3.9 0.125,3.2 0.375,3.2 0.375,3.9
  region: 0.625,3.9 0.625,3.2 0.875,3.2 0.875,3.9
  region: 1.125,3.9 1.125,3.2 1.375,3.2 1.375,3.9
  region: 1.625,3.9 1.625,3.2 1.875,3.2 1.875,3.9
  region: 2.125,3.9 2.125,3.2 2.375,3.2 2.375,3.9
  region: 2.625,3.9 2.625,3.2 2.875,3.2 2.875,3.9
  rectangle: 0.1,0.1 1.2,1.2
  rectangle: 0.1,1.4 1.2,2.5
  rectangle: 1.4,0.1 2.5,1.2
  rectangle: 1.4,1.4 2.5,2.5
  region: -1.4,2.5 -2.5,2.5 -2.5,1.4 -1.4,1.4
  region: -1.4,1.2 -2.5,1.2 -2.5,0.1 -1.4,0.1
  region: -0.1,2.5 -1.2,2.5 -1.2,1.4 -0.1,1.4
  region: -0.1,1.2 -1.2,1.2 -1.2,0.1 -0.1,0.1
  region: -2.5,-1.4 -2.5,-2.5 -1.4,-2.5 -1.4,-1.4
  region: -1.2,-1.4 -1.2,-2.5 -0.1,-2.5 -0.1,-1.4
  region: -2.5,-0.1 -2.5,-1.2 -1.4,-1.2 -1.4,-0.1
  region: -1.2,-0.1 -1.2,-1.2 -0.1,-1.2 -0.1,-0.1
  region: 1.4,-1.4 1.4,-2.5 2.5,-2.5 2.5,-1.4
  region: 0.1,-1.4 0.1,-2.5 1.2,-2.5 1.2,-1.4
  region: 1.4,-0.1 1.4,-1.2 2.5,-1.2 2.5,-0.1
  region: 0.1,-0.1 0.1,-1.2 1.2,-1.2 1.2,-0.1
Mechanical 13:
  circle w0.1: c-2.65,2.65 r0.5
  lines w0.1: -3.55,-3.55 3.55,-3.55 3.55,3.55 -3.55,3.55 -3.55,-3.55
Mechanical 15:
  lines w0.05: -3.8,-3.8 3.8,-3.8 3.8,3.8 -3.8,3.8 -3.8,-3.8
  lines w0.1: -0.5,0 0.5,0 ; 0,-0.5 0,0.5
3D body: height 0.8, standoff 0, extent -3.55,-3.55 3.55,3.55

## SQA54A [mm] "PQFN, 54-Leads, (18x9 pads), Body 10x10mm, Pitch 0.5mm, NSC Recommended"
height 0.8
pads (55):
  rect 0.6x0.25 smd paste-0.125 mask+0.051: 1(-2.65,4.25) 2(-2.65,3.75) 3(-2.65,3.25) 4(-2.65,2.75) 5(-2.65,2.25) 6(-2.65,1.75) 7(-2.65,1.25) 8(-2.65,0.75) 9(-2.65,0.25) 10(-2.65,-0.25) 11(-2.65,-0.75) 12(-2.65,-1.25) 13(-2.65,-1.75) 14(-2.65,-2.25) 15(-2.65,-2.75) 16(-2.65,-3.25) 17(-2.65,-3.75) 18(-2.65,-4.25) 28(2.65,-4.25) 29(2.65,-3.75) 30(2.65,-3.25) 31(2.65,-2.75) 32(2.65,-2.25) 33(2.65,-1.75) 34(2.65,-1.25) 35(2.65,-0.75) 36(2.65,-0.25) 37(2.65,0.25) 38(2.65,0.75) 39(2.65,1.25) 40(2.65,1.75) 41(2.65,2.25) 42(2.65,2.75) 43(2.65,3.25) 44(2.65,3.75) 45(2.65,4.25)
  rect 0.25x0.6 smd paste-0.125 mask+0.051: 19(-2,-4.9) 20(-1.5,-4.9) 21(-1,-4.9) 22(-0.5,-4.9) 23(0,-4.9) 24(0.5,-4.9) 25(1,-4.9) 26(1.5,-4.9) 27(2,-4.9) 46(2,4.9) 47(1.5,4.9) 48(1,4.9) 49(0.5,4.9) 50(0,4.9) 51(-0.5,4.9) 52(-1,4.9) 53(-1.5,4.9) 54(-2,4.9)
  rect 3.51x7.5 smd paste-1.755 mask+0.051: 55(0,0)
via 1.5,0.73 diameter 0.5 hole 0.2
via 0,0.73 diameter 0.5 hole 0.2
via 0,-0.73 diameter 0.5 hole 0.2
via 1.5,-0.73 diameter 0.5 hole 0.2
via -1.5,0.73 diameter 0.5 hole 0.2
via -1.5,-0.73 diameter 0.5 hole 0.2
via -1.5,2.19 diameter 0.5 hole 0.2
via 0,2.19 diameter 0.5 hole 0.2
via 1.5,2.19 diameter 0.5 hole 0.2
via -1.5,3.5 diameter 0.5 hole 0.2
via 0,3.5 diameter 0.5 hole 0.2
via 1.5,3.5 diameter 0.5 hole 0.2
via 1.5,-2.19 diameter 0.5 hole 0.2
via 0,-2.19 diameter 0.5 hole 0.2
via -1.5,-2.19 diameter 0.5 hole 0.2
via 1.5,-3.5 diameter 0.5 hole 0.2
via 0,-3.5 diameter 0.5 hole 0.2
via -1.5,-3.5 diameter 0.5 hole 0.2
Top Overlay:
  circle w0.25: c-3.6,4.925 r0.125
  lines w0.2: -2.95,-4.775 -2.95,-5.2 -2.525,-5.2 ; -2.95,4.775 -2.95,5.2 -2.525,5.2 ; 2.525,-5.2 2.95,-5.2 2.95,-4.775 ; 2.525,5.2 2.95,5.2 2.95,4.775
Top Paste:
  rectangle: 1.875,-5.4 2.125,-4.7
  rectangle: 1.375,-5.4 1.625,-4.7
  rectangle: 0.875,-5.4 1.125,-4.7
  rectangle: 0.375,-5.4 0.625,-4.7
  rectangle: -0.125,-5.4 0.125,-4.7
  rectangle: -0.625,-5.4 -0.375,-4.7
  rectangle: -1.125,-5.4 -0.875,-4.7
  rectangle: -1.625,-5.4 -1.375,-4.7
  rectangle: -2.125,-5.4 -1.875,-4.7
  region: -3.15,-4.125 -3.15,-4.375 -2.45,-4.375 -2.45,-4.125
  region: -3.15,-3.625 -3.15,-3.875 -2.45,-3.875 -2.45,-3.625
  region: -3.15,-3.125 -3.15,-3.375 -2.45,-3.375 -2.45,-3.125
  region: -3.15,-2.625 -3.15,-2.875 -2.45,-2.875 -2.45,-2.625
  region: -3.15,-2.125 -3.15,-2.375 -2.45,-2.375 -2.45,-2.125
  region: -3.15,-1.625 -3.15,-1.875 -2.45,-1.875 -2.45,-1.625
  region: -3.15,-1.125 -3.15,-1.375 -2.45,-1.375 -2.45,-1.125
  region: -3.15,-0.625 -3.15,-0.875 -2.45,-0.875 -2.45,-0.625
  region: -3.15,-0.125 -3.15,-0.375 -2.45,-0.375 -2.45,-0.125
  region: -3.15,0.375 -3.15,0.125 -2.45,0.125 -2.45,0.375
  region: -3.15,0.875 -3.15,0.625 -2.45,0.625 -2.45,0.875
  region: -3.15,1.375 -3.15,1.125 -2.45,1.125 -2.45,1.375
  region: -3.15,1.875 -3.15,1.625 -2.45,1.625 -2.45,1.875
  region: -3.15,2.375 -3.15,2.125 -2.45,2.125 -2.45,2.375
  region: -3.15,2.875 -3.15,2.625 -2.45,2.625 -2.45,2.875
  region: -3.15,3.375 -3.15,3.125 -2.45,3.125 -2.45,3.375
  region: -3.15,3.875 -3.15,3.625 -2.45,3.625 -2.45,3.875
  region: -3.15,4.375 -3.15,4.125 -2.45,4.125 -2.45,4.375
  region: 2.125,5.4 1.875,5.4 1.875,4.7 2.125,4.7
  region: 1.625,5.4 1.375,5.4 1.375,4.7 1.625,4.7
  region: 1.125,5.4 0.875,5.4 0.875,4.7 1.125,4.7
  region: 0.625,5.4 0.375,5.4 0.375,4.7 0.625,4.7
  region: 0.125,5.4 -0.125,5.4 -0.125,4.7 0.125,4.7
  region: -0.375,5.4 -0.625,5.4 -0.625,4.7 -0.375,4.7
  region: -0.875,5.4 -1.125,5.4 -1.125,4.7 -0.875,4.7
  region: -1.375,5.4 -1.625,5.4 -1.625,4.7 -1.375,4.7
  region: -1.875,5.4 -2.125,5.4 -2.125,4.7 -1.875,4.7
  region: 3.15,-4.375 3.15,-4.125 2.45,-4.125 2.45,-4.375
  region: 3.15,-3.875 3.15,-3.625 2.45,-3.625 2.45,-3.875
  region: 3.15,-3.375 3.15,-3.125 2.45,-3.125 2.45,-3.375
  region: 3.15,-2.875 3.15,-2.625 2.45,-2.625 2.45,-2.875
  region: 3.15,-2.375 3.15,-2.125 2.45,-2.125 2.45,-2.375
  region: 3.15,-1.875 3.15,-1.625 2.45,-1.625 2.45,-1.875
  region: 3.15,-1.375 3.15,-1.125 2.45,-1.125 2.45,-1.375
  region: 3.15,-0.875 3.15,-0.625 2.45,-0.625 2.45,-0.875
  region: 3.15,-0.375 3.15,-0.125 2.45,-0.125 2.45,-0.375
  region: 3.15,0.125 3.15,0.375 2.45,0.375 2.45,0.125
  region: 3.15,0.625 3.15,0.875 2.45,0.875 2.45,0.625
  region: 3.15,1.125 3.15,1.375 2.45,1.375 2.45,1.125
  region: 3.15,1.625 3.15,1.875 2.45,1.875 2.45,1.625
  region: 3.15,2.125 3.15,2.375 2.45,2.375 2.45,2.125
  region: 3.15,2.625 3.15,2.875 2.45,2.875 2.45,2.625
  region: 3.15,3.125 3.15,3.375 2.45,3.375 2.45,3.125
  region: 3.15,3.625 3.15,3.875 2.45,3.875 2.45,3.625
  region: 3.15,4.125 3.15,4.375 2.45,4.375 2.45,4.125
  rectangle: 0.1,-0.63 1.4,0.63
  region: -0.1,0.63 -1.4,0.63 -1.4,-0.63 -0.1,-0.63
  region: -0.1,2.09 -1.4,2.09 -1.4,0.83 -0.1,0.83
  rectangle: 0.1,0.83 1.4,2.09
  region: -0.1,3.55 -1.4,3.55 -1.4,2.29 -0.1,2.29
  rectangle: 0.1,2.29 1.4,3.55
  rectangle: 0.1,-2.09 1.4,-0.83
  region: -0.1,-0.83 -1.4,-0.83 -1.4,-2.09 -0.1,-2.09
  rectangle: 0.1,-3.55 1.4,-2.29
  region: -0.1,-2.29 -1.4,-2.29 -1.4,-3.55 -0.1,-3.55
Mechanical 13:
  circle w0.1: c-1.85,4.1 r0.5
  lines w0.1: -2.8,-5.05 -2.8,5.05 2.8,5.05 2.8,-5.05 -2.8,-5.05
Mechanical 15:
  lines w0.05: -2.9,-5.15 -2.9,5.15 2.9,5.15 2.9,-5.15 -2.9,-5.15
  lines w0.1: -0.5,0 0.5,0 ; 0,-0.5 0,0.5
3D body: height 0.8, standoff 0, extent -2.799,-5.049 2.799,5.049

## SQF40A [mm] "QFN, 40-Leads, Body 5x5 mm, Pitch 0.4mm, NSC Recommended"
height 0.8
pads (41):
  rect 0.6x0.2 smd paste-0.125 mask+0.051: 1(-2.4,1.8) 2(-2.4,1.4) 3(-2.4,1) 4(-2.4,0.6) 5(-2.4,0.2) 6(-2.4,-0.2) 7(-2.4,-0.6) 8(-2.4,-1) 9(-2.4,-1.4) 10(-2.4,-1.8) 21(2.4,-1.8) 22(2.4,-1.4) 23(2.4,-1) 24(2.4,-0.6) 25(2.4,-0.2) 26(2.4,0.2) 27(2.4,0.6) 28(2.4,1) 29(2.4,1.4) 30(2.4,1.8)
  rect 0.2x0.6 smd paste-0.125 mask+0.051: 11(-1.8,-2.4) 12(-1.4,-2.4) 13(-1,-2.4) 14(-0.6,-2.4) 15(-0.2,-2.4) 16(0.2,-2.4) 17(0.6,-2.4) 18(1,-2.4) 19(1.4,-2.4) 20(1.8,-2.4) 31(1.8,2.4) 32(1.4,2.4) 33(1,2.4) 34(0.6,2.4) 35(0.2,2.4) 36(-0.2,2.4) 37(-0.6,2.4) 38(-1,2.4) 39(-1.4,2.4) 40(-1.8,2.4)
  rect 3.6x3.6 smd paste-1.8 mask+0.051: 41(0,0)
via 0,0 diameter 0.5 hole 0.2
via 0,1.27 diameter 0.5 hole 0.2
via -1.27,0 diameter 0.5 hole 0.2
via 0,-1.27 diameter 0.5 hole 0.2
via 1.27,0 diameter 0.5 hole 0.2
Top Overlay:
  circle w0.25: c-3.4,2.425 r0.125
  lines w0.2: -2.85,-2.275 -2.85,-2.85 -2.275,-2.85 ; -2.85,2.275 -2.85,2.85 -2.275,2.85 ; 2.275,-2.85 2.85,-2.85 2.85,-2.275 ; 2.275,2.85 2.85,2.85 2.85,2.275
Top Paste:
  rectangle: 0.1,-1.6 1.6,-0.1
  region: -0.1,-0.1 -1.6,-0.1 -1.6,-1.6 -0.1,-1.6
  region: -0.1,1.6 -1.6,1.6 -1.6,0.1 -0.1,0.1
  rectangle: 0.1,0.1 1.6,1.6
  region: 1.7,2.9 1.7,2.2 1.9,2.2 1.9,2.9
  region: 1.3,2.9 1.3,2.2 1.5,2.2 1.5,2.9
  region: 0.5,2.9 0.5,2.2 0.7,2.2 0.7,2.9
  region: 0.9,2.9 0.9,2.2 1.1,2.2 1.1,2.9
  region: -1.9,2.9 -1.9,2.2 -1.7,2.2 -1.7,2.9
  region: -1.1,2.9 -1.1,2.2 -0.9,2.2 -0.9,2.9
  region: -1.5,2.9 -1.5,2.2 -1.3,2.2 -1.3,2.9
  region: -0.7,2.9 -0.7,2.2 -0.5,2.2 -0.5,2.9
  region: -0.3,2.9 -0.3,2.2 -0.1,2.2 -0.1,2.9
  region: 0.1,2.9 0.1,2.2 0.3,2.2 0.3,2.9
  region: 0.3,-2.9 0.3,-2.2 0.1,-2.2 0.1,-2.9
  region: -0.1,-2.9 -0.1,-2.2 -0.3,-2.2 -0.3,-2.9
  region: -0.5,-2.9 -0.5,-2.2 -0.7,-2.2 -0.7,-2.9
  region: -1.3,-2.9 -1.3,-2.2 -1.5,-2.2 -1.5,-2.9
  region: -0.9,-2.9 -0.9,-2.2 -1.1,-2.2 -1.1,-2.9
  region: -1.7,-2.9 -1.7,-2.2 -1.9,-2.2 -1.9,-2.9
  region: 1.1,-2.9 1.1,-2.2 0.9,-2.2 0.9,-2.9
  region: 0.7,-2.9 0.7,-2.2 0.5,-2.2 0.5,-2.9
  region: 1.5,-2.9 1.5,-2.2 1.3,-2.2 1.3,-2.9
  region: 1.9,-2.9 1.9,-2.2 1.7,-2.2 1.7,-2.9
  rectangle: -2.9,-1.9 -2.2,-1.7
  rectangle: -2.9,-1.5 -2.2,-1.3
  rectangle: -2.9,-0.7 -2.2,-0.5
  rectangle: -2.9,-1.1 -2.2,-0.9
  rectangle: -2.9,1.7 -2.2,1.9
  rectangle: -2.9,0.9 -2.2,1.1
  rectangle: -2.9,1.3 -2.2,1.5
  rectangle: -2.9,0.5 -2.2,0.7
  rectangle: -2.9,0.1 -2.2,0.3
  rectangle: -2.9,-0.3 -2.2,-0.1
  region: 2.9,-0.1 2.2,-0.1 2.2,-0.3 2.9,-0.3
  region: 2.9,0.3 2.2,0.3 2.2,0.1 2.9,0.1
  region: 2.9,0.7 2.2,0.7 2.2,0.5 2.9,0.5
  region: 2.9,1.5 2.2,1.5 2.2,1.3 2.9,1.3
  region: 2.9,1.1 2.2,1.1 2.2,0.9 2.9,0.9
  region: 2.9,1.9 2.2,1.9 2.2,1.7 2.9,1.7
  region: 2.9,-0.9 2.2,-0.9 2.2,-1.1 2.9,-1.1
  region: 2.9,-0.5 2.2,-0.5 2.2,-0.7 2.9,-0.7
  region: 2.9,-1.3 2.2,-1.3 2.2,-1.5 2.9,-1.5
  region: 2.9,-1.7 2.2,-1.7 2.2,-1.9 2.9,-1.9
Mechanical 13:
  circle w0.1: c-1.6,1.6 r0.5
  lines w0.1: -2.55,-2.55 -2.55,2.55 2.55,2.55 2.55,-2.55 -2.55,-2.55
Mechanical 15:
  lines w0.05: -2.8,-2.8 2.8,-2.8 2.8,2.8 -2.8,2.8 -2.8,-2.8
  lines w0.1: -0.5,0 0.5,0 ; 0,-0.5 0,0.5
3D body: height 0.8, standoff 0, extent -2.55,-2.55 2.55,2.55

## SQF48A [mm] "QFN, 48-Leads, Body 6x6 mm, Pitch 0.4mm, NSC Recommended"
height 0.8
pads (49):
  rect 0.6x0.2 smd paste-0.125 mask+0.051: 1(-2.9,2.2) 2(-2.9,1.8) 3(-2.9,1.4) 4(-2.9,1) 5(-2.9,0.6) 6(-2.9,0.2) 7(-2.9,-0.2) 8(-2.9,-0.6) 9(-2.9,-1) 10(-2.9,-1.4) 11(-2.9,-1.8) 12(-2.9,-2.2) 25(2.9,-2.2) 26(2.9,-1.8) 27(2.9,-1.4) 28(2.9,-1) 29(2.9,-0.6) 30(2.9,-0.2) 31(2.9,0.2) 32(2.9,0.6) 33(2.9,1) 34(2.9,1.4) 35(2.9,1.8) 36(2.9,2.2)
  rect 0.2x0.6 smd paste-0.125 mask+0.051: 13(-2.2,-2.9) 14(-1.8,-2.9) 15(-1.4,-2.9) 16(-1,-2.9) 17(-0.6,-2.9) 18(-0.2,-2.9) 19(0.2,-2.9) 20(0.6,-2.9) 21(1,-2.9) 22(1.4,-2.9) 23(1.8,-2.9) 24(2.2,-2.9) 37(2.2,2.9) 38(1.8,2.9) 39(1.4,2.9) 40(1,2.9) 41(0.6,2.9) 42(0.2,2.9) 43(-0.2,2.9) 44(-0.6,2.9) 45(-1,2.9) 46(-1.4,2.9) 47(-1.8,2.9) 48(-2.2,2.9)
  rect 4.6x4.6 smd paste-2.3 mask+0.051: 49(0,0)
via 1.2,1.2 diameter 0.5 hole 0.2
via -1.2,1.2 diameter 0.5 hole 0.2
via 0,1.2 diameter 0.5 hole 0.2
via 1.2,-1.2 diameter 0.5 hole 0.2
via -1.2,-1.2 diameter 0.5 hole 0.2
via 0,-1.2 diameter 0.5 hole 0.2
via 0,0 diameter 0.5 hole 0.2
via -1.2,0 diameter 0.5 hole 0.2
via 1.2,0 diameter 0.5 hole 0.2
Top Overlay:
  circle w0.25: c-3.9,2.675 r0.125
  lines w0.2: -3.35,-2.6 -3.35,-3.35 -2.6,-3.35 ; -3.35,2.6 -3.35,3.35 -2.6,3.35 ; 2.6,-3.35 3.35,-3.35 3.35,-2.6 ; 2.6,3.35 3.35,3.35 3.35,2.6
Top Paste:
  rectangle: -3.4,2.1 -2.7,2.3
  rectangle: -3.4,1.7 -2.7,1.9
  rectangle: -3.4,1.3 -2.7,1.5
  rectangle: -3.4,0.9 -2.7,1.1
  rectangle: -3.4,0.5 -2.7,0.7
  rectangle: -3.4,0.1 -2.7,0.3
  rectangle: -3.4,-2.3 -2.7,-2.1
  rectangle: -3.4,-1.9 -2.7,-1.7
  rectangle: -3.4,-1.5 -2.7,-1.3
  rectangle: -3.4,-1.1 -2.7,-0.9
  rectangle: -3.4,-0.7 -2.7,-0.5
  rectangle: -3.4,-0.3 -2.7,-0.1
  region: 0.3,-3.4 0.3,-2.7 0.1,-2.7 0.1,-3.4
  region: 0.7,-3.4 0.7,-2.7 0.5,-2.7 0.5,-3.4
  region: 1.1,-3.4 1.1,-2.7 0.9,-2.7 0.9,-3.4
  region: 1.5,-3.4 1.5,-2.7 1.3,-2.7 1.3,-3.4
  region: 1.9,-3.4 1.9,-2.7 1.7,-2.7 1.7,-3.4
  region: 2.3,-3.4 2.3,-2.7 2.1,-2.7 2.1,-3.4
  region: -0.1,-3.4 -0.1,-2.7 -0.3,-2.7 -0.3,-3.4
  region: -0.5,-3.4 -0.5,-2.7 -0.7,-2.7 -0.7,-3.4
  region: -0.9,-3.4 -0.9,-2.7 -1.1,-2.7 -1.1,-3.4
  region: -1.3,-3.4 -1.3,-2.7 -1.5,-2.7 -1.5,-3.4
  region: -1.7,-3.4 -1.7,-2.7 -1.9,-2.7 -1.9,-3.4
  region: -2.1,-3.4 -2.1,-2.7 -2.3,-2.7 -2.3,-3.4
  region: 3.4,0.3 2.7,0.3 2.7,0.1 3.4,0.1
  region: 3.4,0.7 2.7,0.7 2.7,0.5 3.4,0.5
  region: 3.4,1.1 2.7,1.1 2.7,0.9 3.4,0.9
  region: 3.4,1.5 2.7,1.5 2.7,1.3 3.4,1.3
  region: 3.4,1.9 2.7,1.9 2.7,1.7 3.4,1.7
  region: 3.4,2.3 2.7,2.3 2.7,2.1 3.4,2.1
  region: 3.4,-0.1 2.7,-0.1 2.7,-0.3 3.4,-0.3
  region: 3.4,-0.5 2.7,-0.5 2.7,-0.7 3.4,-0.7
  region: 3.4,-0.9 2.7,-0.9 2.7,-1.1 3.4,-1.1
  region: 3.4,-1.3 2.7,-1.3 2.7,-1.5 3.4,-1.5
  region: 3.4,-1.7 2.7,-1.7 2.7,-1.9 3.4,-1.9
  region: 3.4,-2.1 2.7,-2.1 2.7,-2.3 3.4,-2.3
  region: -0.3,3.4 -0.3,2.7 -0.1,2.7 -0.1,3.4
  region: -0.7,3.4 -0.7,2.7 -0.5,2.7 -0.5,3.4
  region: -1.1,3.4 -1.1,2.7 -0.9,2.7 -0.9,3.4
  region: -1.5,3.4 -1.5,2.7 -1.3,2.7 -1.3,3.4
  region: -1.9,3.4 -1.9,2.7 -1.7,2.7 -1.7,3.4
  region: -2.3,3.4 -2.3,2.7 -2.1,2.7 -2.1,3.4
  region: 0.1,3.4 0.1,2.7 0.3,2.7 0.3,3.4
  region: 0.5,3.4 0.5,2.7 0.7,2.7 0.7,3.4
  region: 0.9,3.4 0.9,2.7 1.1,2.7 1.1,3.4
  region: 1.3,3.4 1.3,2.7 1.5,2.7 1.5,3.4
  region: 1.7,3.4 1.7,2.7 1.9,2.7 1.9,3.4
  region: 2.1,3.4 2.1,2.7 2.3,2.7 2.3,3.4
  rectangle: 0.1,-1.1 1.1,-0.1
  rectangle: 1.3,-2.3 2.3,-1.3
  rectangle: 1.3,-1.1 2.3,-0.1
  rectangle: 0.1,-2.3 1.1,-1.3
  region: -0.1,-0.1 -1.1,-0.1 -1.1,-1.1 -0.1,-1.1
  region: -1.3,-1.3 -2.3,-1.3 -2.3,-2.3 -1.3,-2.3
  region: -1.3,-0.1 -2.3,-0.1 -2.3,-1.1 -1.3,-1.1
  region: -0.1,-1.3 -1.1,-1.3 -1.1,-2.3 -0.1,-2.3
  region: -0.1,1.1 -1.1,1.1 -1.1,0.1 -0.1,0.1
  region: -1.3,2.3 -2.3,2.3 -2.3,1.3 -1.3,1.3
  region: -1.3,1.1 -2.3,1.1 -2.3,0.1 -1.3,0.1
  region: -0.1,2.3 -1.1,2.3 -1.1,1.3 -0.1,1.3
  rectangle: 0.1,1.3 1.1,2.3
  rectangle: 1.3,0.1 2.3,1.1
  rectangle: 1.3,1.3 2.3,2.3
  rectangle: 0.1,0.1 1.1,1.1
Mechanical 13:
  circle w0.1: c-2.15,2.15 r0.5
  lines w0.1: -3.05,-3.05 3.05,-3.05 3.05,3.05 -3.05,3.05 -3.05,-3.05
Mechanical 15:
  lines w0.05: -3.3,-3.3 3.3,-3.3 3.3,3.3 -3.3,3.3 -3.3,-3.3
  lines w0.1: -0.5,0 0.5,0 ; 0,-0.5 0,0.5
3D body: height 0.8, standoff 0, extent -3.049,-3.049 3.049,3.049

## T03B [mm] "TO, Thru-Hole, Vertical, Heatsink Mounted; 3 In-Line Leads; Pitch 2.54 mm"
height 19.4
pads (3):
  rect 1.6x1.6 hole 1: 1(-2.54,0)
  round 1.6 hole 1: 2(0,0) 3(2.54,0)
Top Overlay:
  circle w0.25: c-4.7,-1.2 r0.125
  lines w0.2: -5.35,2.35 5.35,2.35 ; -5.35,-1.85 -5.35,2.85 5.35,2.85 5.35,-1.85 -5.35,-1.85
Mechanical 13:
  lines w0.1: -5.35,1.55 5.35,1.55 ; -5.35,-1.85 5.35,-1.85 5.35,2.85 -5.35,2.85 -5.35,-1.85
Mechanical 15:
  lines w0.1: -0.5,0 0.5,0 ; 0,-0.5 0,0.5
3D body: height 12.9, standoff 4, extent -5.4,-1.9 5.4,2.9
3D body: height 19.4, standoff 12.9, extent -5.349,1.551 5.349,2.849

## TA11B [mm] "TO, Thru-Hole, Vertical, Heatsink Mounted; 11 Bent Staggered Leads; Pitch 1.7 mm"
height 21
pads (11):
  rect 1.7x1.7 hole 1.1: 1(-8.5,-2.54)
  round 1.7 hole 1.1: 2(-6.8,2.54) 3(-5.1,-2.54) 4(-3.4,2.54) 5(-1.7,-2.54) 6(0,2.54) 7(1.7,-2.54) 8(3.4,2.54) 9(5.1,-2.54) 10(6.8,2.54) 11(8.5,-2.54)
Top Overlay:
  circle w0.25: c-9.9,-2.54 r0.125
  lines w0.2: -10.15,6.34 10.15,6.34 ; -8.754,2.14 -10.15,2.14 -10.15,6.84 10.15,6.84 10.15,2.14 8.774,2.14
Mechanical 13:
  lines w0.1: -10.15,3.41 10.15,3.41 ; -10.15,2.14 -10.15,6.84 10.15,6.84 10.15,2.14 -10.15,2.14
Mechanical 15:
  lines w0.1: -0.5,0 0.5,0 ; 0,-0.5 0,0.5
3D body: height 14, standoff 3.3, extent -10.149,2.141 10.149,6.839
3D body: height 21, standoff 14, extent -10.149,3.411 10.149,6.839

## TA15A [mm] "TO, Thru-Hole, Vertical, Heatsink Mounted; 15 Bent Staggered Leads; Pitch 1.27 mm"
height 21
pads (15):
  rect 1.5x1.5 hole 0.9: 1(-8.89,-2.54)
  round 1.5 hole 0.9: 2(-7.62,2.54) 3(-6.35,-2.54) 4(-5.08,2.54) 5(-3.81,-2.54) 6(-2.54,2.54) 7(-1.27,-2.54) 8(0,2.54) 9(1.27,-2.54) 10(2.54,2.54) 11(3.81,-2.54) 12(5.08,2.54) 13(6.35,-2.54) 14(7.62,2.54) 15(8.89,-2.54)
Top Overlay:
  circle w0.25: c-10.19,-2.54 r0.125
  lines w0.2: -10.15,6.33 10.15,6.33 ; -9.144,1.83 -10.15,1.83 -10.15,6.83 10.15,6.83 10.15,1.83 9.144,1.83
Mechanical 13:
  lines w0.1: -10.15,5.23 10.15,5.23 ; -10.15,1.83 10.15,1.83 10.15,6.83 -10.15,6.83 -10.15,1.83
Mechanical 15:
  lines w0.1: -0.5,0 0.5,0 ; 0,-0.5 0,0.5
3D body: height 21, standoff 14.19, extent -10.149,5.231 10.149,6.829
3D body: height 14.19, standoff 3.37, extent -10.2,1.78 10.2,6.88

## TE11B [mm] "TO, Thru-Hole, Vertical, Heatsink Mounted; 11 Bent Staggered Leads; Pitch 1.7 mm"
height 21
pads (11):
  rect 1.3x1.3 hole 0.7: 1(-8.5,-2.54)
  round 1.3 hole 0.7: 2(-6.8,2.54) 3(-5.1,-2.54) 4(-3.4,2.54) 5(-1.7,-2.54) 6(0,2.54) 7(1.7,-2.54) 8(3.4,2.54) 9(5.1,-2.54) 10(6.8,2.54) 11(8.5,-2.54)
Top Overlay:
  circle w0.25: c-9.7,-2.54 r0.125
  lines w0.2: -10.15,6.33 10.15,6.33 ; -8.754,2.13 -10.15,2.13 -10.15,6.83 10.15,6.83 10.15,2.13 8.774,2.13
Mechanical 13:
  lines w0.1: -10.15,2.13 10.15,2.13 ; -10.15,4.73 -10.15,6.83 10.15,6.83 10.15,4.73 ; -10.15,5.23 10.15,5.23
Mechanical 15:
  lines w0.1: -0.5,0 0.5,0 ; 0,-0.5 0,0.5
3D body: height 21, standoff 14.3, extent -10.149,5.231 10.149,6.829
3D body: height 14.3, standoff 3.5, extent -10.2,2.08 10.2,6.88

## TLA05CBA [mm] "Micro SMD, 5-Leads, Body 1.39x1.06mm, Pitch 0.5mm, NSC Recommended"
height 0.68
pads (5):
  round 0.265 smd paste-0.132 mask+0.05: A1(-0.25,0.433) A3(0.25,0.433) B2(0,0) C1(-0.25,-0.433) C3(0.25,-0.433)
Top Overlay:
  circle w0.1: c-0.635,0.8 r0.05
Top Paste:
  circle w0.05: c0.175,-0.508 r0.025
  circle w0.05: c0.325,-0.358 r0.025
  circle w0.05: c0.325,-0.508 r0.025
  circle w0.05: c0.175,-0.358 r0.025
  circle w0.05: c-0.325,-0.508 r0.025
  circle w0.05: c-0.175,-0.358 r0.025
  circle w0.05: c-0.175,-0.508 r0.025
  circle w0.05: c-0.325,-0.358 r0.025
  circle w0.05: c-0.075,-0.075 r0.025
  circle w0.05: c0.075,0.075 r0.025
  circle w0.05: c0.075,-0.075 r0.025
  circle w0.05: c-0.075,0.075 r0.025
  circle w0.05: c-0.325,0.358 r0.025
  circle w0.05: c-0.175,0.508 r0.025
  circle w0.05: c-0.175,0.358 r0.025
  circle w0.05: c-0.325,0.508 r0.025
  circle w0.05: c0.175,0.358 r0.025
  circle w0.05: c0.325,0.508 r0.025
  circle w0.05: c0.325,0.358 r0.025
  circle w0.05: c0.175,0.508 r0.025
  region: 0.175,-0.358 0.175,-0.508 0.325,-0.508 0.325,-0.358
  region: 0.175,-0.508 0.175,-0.358 0.125,-0.358 0.125,-0.508
  rectangle: 0.175,-0.358 0.325,-0.308
  region: 0.325,-0.358 0.325,-0.508 0.375,-0.508 0.375,-0.358
  region: 0.325,-0.508 0.175,-0.508 0.175,-0.558 0.325,-0.558
  region: -0.325,-0.358 -0.325,-0.508 -0.175,-0.508 -0.175,-0.358
  region: -0.325,-0.508 -0.325,-0.358 -0.375,-0.358 -0.375,-0.508
  rectangle: -0.325,-0.358 -0.175,-0.308
  region: -0.175,-0.358 -0.175,-0.508 -0.125,-0.508 -0.125,-0.358
  region: -0.175,-0.508 -0.325,-0.508 -0.325,-0.558 -0.175,-0.558
  region: -0.075,0.075 -0.075,-0.075 0.075,-0.075 0.075,0.075
  region: -0.075,-0.075 -0.075,0.075 -0.125,0.075 -0.125,-0.075
  rectangle: -0.075,0.075 0.075,0.125
  region: 0.075,0.075 0.075,-0.075 0.125,-0.075 0.125,0.075
  region: 0.075,-0.075 -0.075,-0.075 -0.075,-0.125 0.075,-0.125
  region: -0.325,0.508 -0.325,0.358 -0.175,0.358 -0.175,0.508
  region: -0.325,0.358 -0.325,0.508 -0.375,0.508 -0.375,0.358
  rectangle: -0.325,0.508 -0.175,0.558
  region: -0.175,0.508 -0.175,0.358 -0.125,0.358 -0.125,0.508
  region: -0.175,0.358 -0.325,0.358 -0.325,0.308 -0.175,0.308
  region: 0.175,0.508 0.175,0.358 0.325,0.358 0.325,0.508
  region: 0.175,0.358 0.175,0.508 0.125,0.508 0.125,0.358
  rectangle: 0.175,0.508 0.325,0.558
  region: 0.325,0.508 0.325,0.358 0.375,0.358 0.375,0.508
  region: 0.325,0.358 0.175,0.358 0.175,0.308 0.325,0.308
Mechanical 13:
  lines w0.1: -0.53,-0.695 -0.53,0.695 0.53,0.695 0.53,-0.695 -0.53,-0.695
Mechanical 15:
  lines w0.05: -0.63,-0.795 -0.63,0.795 0.63,0.795 0.63,-0.795 -0.63,-0.795
  lines w0.1: -0.5,0 0.5,0 ; 0,-0.5 0,0.5
3D body: height 0.68, standoff 0, extent -0.53,-0.695 0.53,0.695

## TLA05EFA [mm] "Micro SMD, 5-Leads, Body 1.49x1.11mm, Pitch 0.5mm, NSC Recommended"
height 0.68
pads (5):
  round 0.265 smd paste-0.132 mask+0.05: A1(-0.25,0.433) A3(0.25,0.433) B2(0,0) C1(-0.25,-0.433) C3(0.25,-0.433)
Top Overlay:
  circle w0.1: c-0.66,0.85 r0.05
Top Paste:
  circle w0.05: c-0.325,-0.508 r0.025
  circle w0.05: c-0.175,-0.358 r0.025
  circle w0.05: c-0.175,-0.508 r0.025
  circle w0.05: c-0.325,-0.358 r0.025
  circle w0.05: c0.175,-0.508 r0.025
  circle w0.05: c0.325,-0.358 r0.025
  circle w0.05: c0.325,-0.508 r0.025
  circle w0.05: c0.175,-0.358 r0.025
  circle w0.05: c-0.075,-0.075 r0.025
  circle w0.05: c0.075,0.075 r0.025
  circle w0.05: c0.075,-0.075 r0.025
  circle w0.05: c-0.075,0.075 r0.025
  circle w0.05: c-0.325,0.358 r0.025
  circle w0.05: c-0.175,0.508 r0.025
  circle w0.05: c-0.175,0.358 r0.025
  circle w0.05: c-0.325,0.508 r0.025
  circle w0.05: c0.175,0.358 r0.025
  circle w0.05: c0.325,0.508 r0.025
  circle w0.05: c0.325,0.358 r0.025
  circle w0.05: c0.175,0.508 r0.025
  region: -0.325,-0.358 -0.325,-0.508 -0.175,-0.508 -0.175,-0.358
  region: -0.325,-0.508 -0.325,-0.358 -0.375,-0.358 -0.375,-0.508
  rectangle: -0.325,-0.358 -0.175,-0.308
  region: -0.175,-0.358 -0.175,-0.508 -0.125,-0.508 -0.125,-0.358
  region: -0.175,-0.508 -0.325,-0.508 -0.325,-0.558 -0.175,-0.558
  region: 0.175,-0.358 0.175,-0.508 0.325,-0.508 0.325,-0.358
  region: 0.175,-0.508 0.175,-0.358 0.125,-0.358 0.125,-0.508
  rectangle: 0.175,-0.358 0.325,-0.308
  region: 0.325,-0.358 0.325,-0.508 0.375,-0.508 0.375,-0.358
  region: 0.325,-0.508 0.175,-0.508 0.175,-0.558 0.325,-0.558
  region: -0.075,0.075 -0.075,-0.075 0.075,-0.075 0.075,0.075
  region: -0.075,-0.075 -0.075,0.075 -0.125,0.075 -0.125,-0.075
  rectangle: -0.075,0.075 0.075,0.125
  region: 0.075,0.075 0.075,-0.075 0.125,-0.075 0.125,0.075
  region: 0.075,-0.075 -0.075,-0.075 -0.075,-0.125 0.075,-0.125
  region: -0.325,0.508 -0.325,0.358 -0.175,0.358 -0.175,0.508
  region: -0.325,0.358 -0.325,0.508 -0.375,0.508 -0.375,0.358
  rectangle: -0.325,0.508 -0.175,0.558
  region: -0.175,0.508 -0.175,0.358 -0.125,0.358 -0.125,0.508
  region: -0.175,0.358 -0.325,0.358 -0.325,0.308 -0.175,0.308
  region: 0.175,0.508 0.175,0.358 0.325,0.358 0.325,0.508
  region: 0.175,0.358 0.175,0.508 0.125,0.508 0.125,0.358
  rectangle: 0.175,0.508 0.325,0.558
  region: 0.325,0.508 0.325,0.358 0.375,0.358 0.375,0.508
  region: 0.325,0.358 0.175,0.358 0.175,0.308 0.325,0.308
Mechanical 13:
  lines w0.1: -0.555,-0.745 -0.555,0.745 0.555,0.745 0.555,-0.745 -0.555,-0.745
Mechanical 15:
  lines w0.05: -0.655,-0.845 -0.655,0.845 0.655,0.845 0.655,-0.845 -0.655,-0.845
  lines w0.1: -0.5,0 0.5,0 ; 0,-0.5 0,0.5
3D body: height 0.68, standoff 0, extent -0.555,-0.745 0.555,0.745